# Altium footprint library PCB - CAPACITOR - ELDC - KYOCERA AVX SCM D12.5 W25 L32 P18 RA.PCBLIB: 1 footprints
Each footprint in its own frame and in the unit in brackets; x right, y up, seen from the top. Pads: shape width x height; smd on the part's side, far side on the other; paste and mask are expansions set on the pad; w line width, h text height; cw(c..) or ccw(c..) is an arc to the next point about the centre after c.
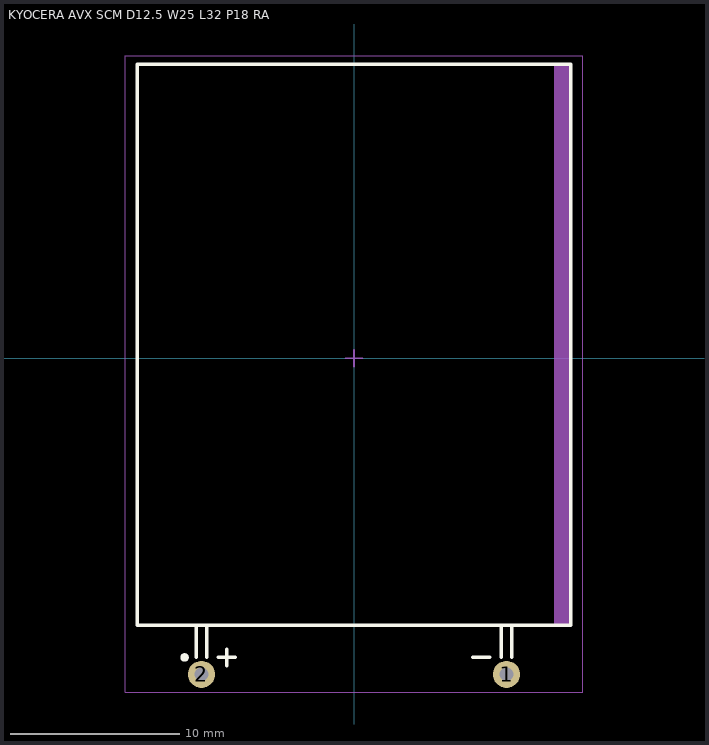
[diagram p0: the footprint, top view; thin cyan lines are the x and y axes]

## KYOCERA AVX SCM D12.5 W25 L32 P18 RA [mm] "Supercap Right Angle"
height 12.5
pads (2):
  round 1.6 hole 0.8 paste-2539.97 mask+0.102: 1(9,-18.65) 2(-9,-18.65)
Top Overlay:
  circle w0.25: c-10,-17.65 r0.125
  lines w0.2: -9.3,-17.65 -9.3,-15.75 ; -8.7,-17.65 -8.7,-15.75 ; -8,-17.65 -7,-17.65 ; -7.5,-18.15 -7.5,-17.15 ; 7,-17.65 8,-17.65 ; 8.7,-17.65 8.7,-15.75 ; 9.3,-17.65 9.3,-15.75 ; -12.8,-15.75 12.8,-15.75 12.8,17.35 -12.8,17.35 -12.8,-15.75
Mechanical 13:
  region: 12.822,17.35 11.8,17.35 11.8,-15.75 12.822,-15.75
  lines w0.1: -12.8,-15.75 12.8,-15.75 12.8,17.35 -12.8,17.35 -12.8,-15.75
Mechanical 15:
  lines w0.05: -13.5,-19.7 13.5,-19.7 13.5,17.85 -13.5,17.85 -13.5,-19.7
  lines w0.1: -0.5,0 0.5,0 ; 0,-0.5 0,0.5
3D body "Kyocera AVX - SCM 7.5uF RA.step": height 13, standoff -3, extent -12.75,-18.95 12.75,17.349